# Altium integrated library Maxim Passive Resistor.IntLib: 1 symbol
Pins are listed as number, name and electrical type; pins without a type are passive.

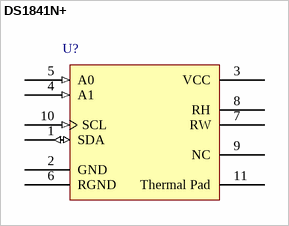
[diagram p0: symbol DS1841N+]

## DS1841N+
designator U?
Temperature-Controlled, NV, I2C, Logarithmic Resistor; Published: 30-May-2008; DatasheetVersion: Rev 2; 5/08; PackageVersion: Rev I, 21-0137; PackageReference: T1033-1; Publisher: Altium Limited; PackageDescription: 10-Pin Thin Dual Flat No-Lead, 0.5 mm Pitch (T1033-1); ComponentLink1Description: Manufacturer Link; ComponentLink1URL: http://www.maxim-ic.com/; ComponentLink2Description: Datasheet; ComponentLink2URL: http://datasheets.maxim-ic.com/en/ds/DS1841.pdf
footprint T1033-1_N (SON, 10-Leads, Body 3x3 mm, Pitch 0.5mm, IPC Medium Density)
footprint T1033-1_L (SON, 10-Leads, Body 3x3 mm, Pitch 0.5mm, IPC High Density)
footprint T1033-1_M (SON, 10-Leads, Body 3x3 mm, Pitch 0.5mm, IPC Low Density)
pins: 1 SDA (io) "I2C Serial Data", 2 GND (power) "Ground", 3 VCC (power) "Power Supply", 4 A1 (in) "Address Select Input", 5 A0 (in) "Address Select Input", 6 RGND "Low Terminal of Resistor", 7 RW "Wiper Terminal", 8 RH "Terminal with Fixed Resistor Added in Series with Digital Resistor", 9 NC "No Connection", 10 SCL (in) "I2C Serial Clock", 11 Thermal Pad "Exposed Paddle"